# Altium footprint library Button_Switch_SMD.PcbLib: 148 footprints (part 2 of 10)
Each footprint in its own frame and in the unit in brackets; x right, y up, seen from the top. Pads: shape width x height; smd on the part's side, far side on the other; paste and mask are expansions set on the pad; w line width, h text height; cw(c..) or ccw(c..) is an arc to the next point about the centre after c.
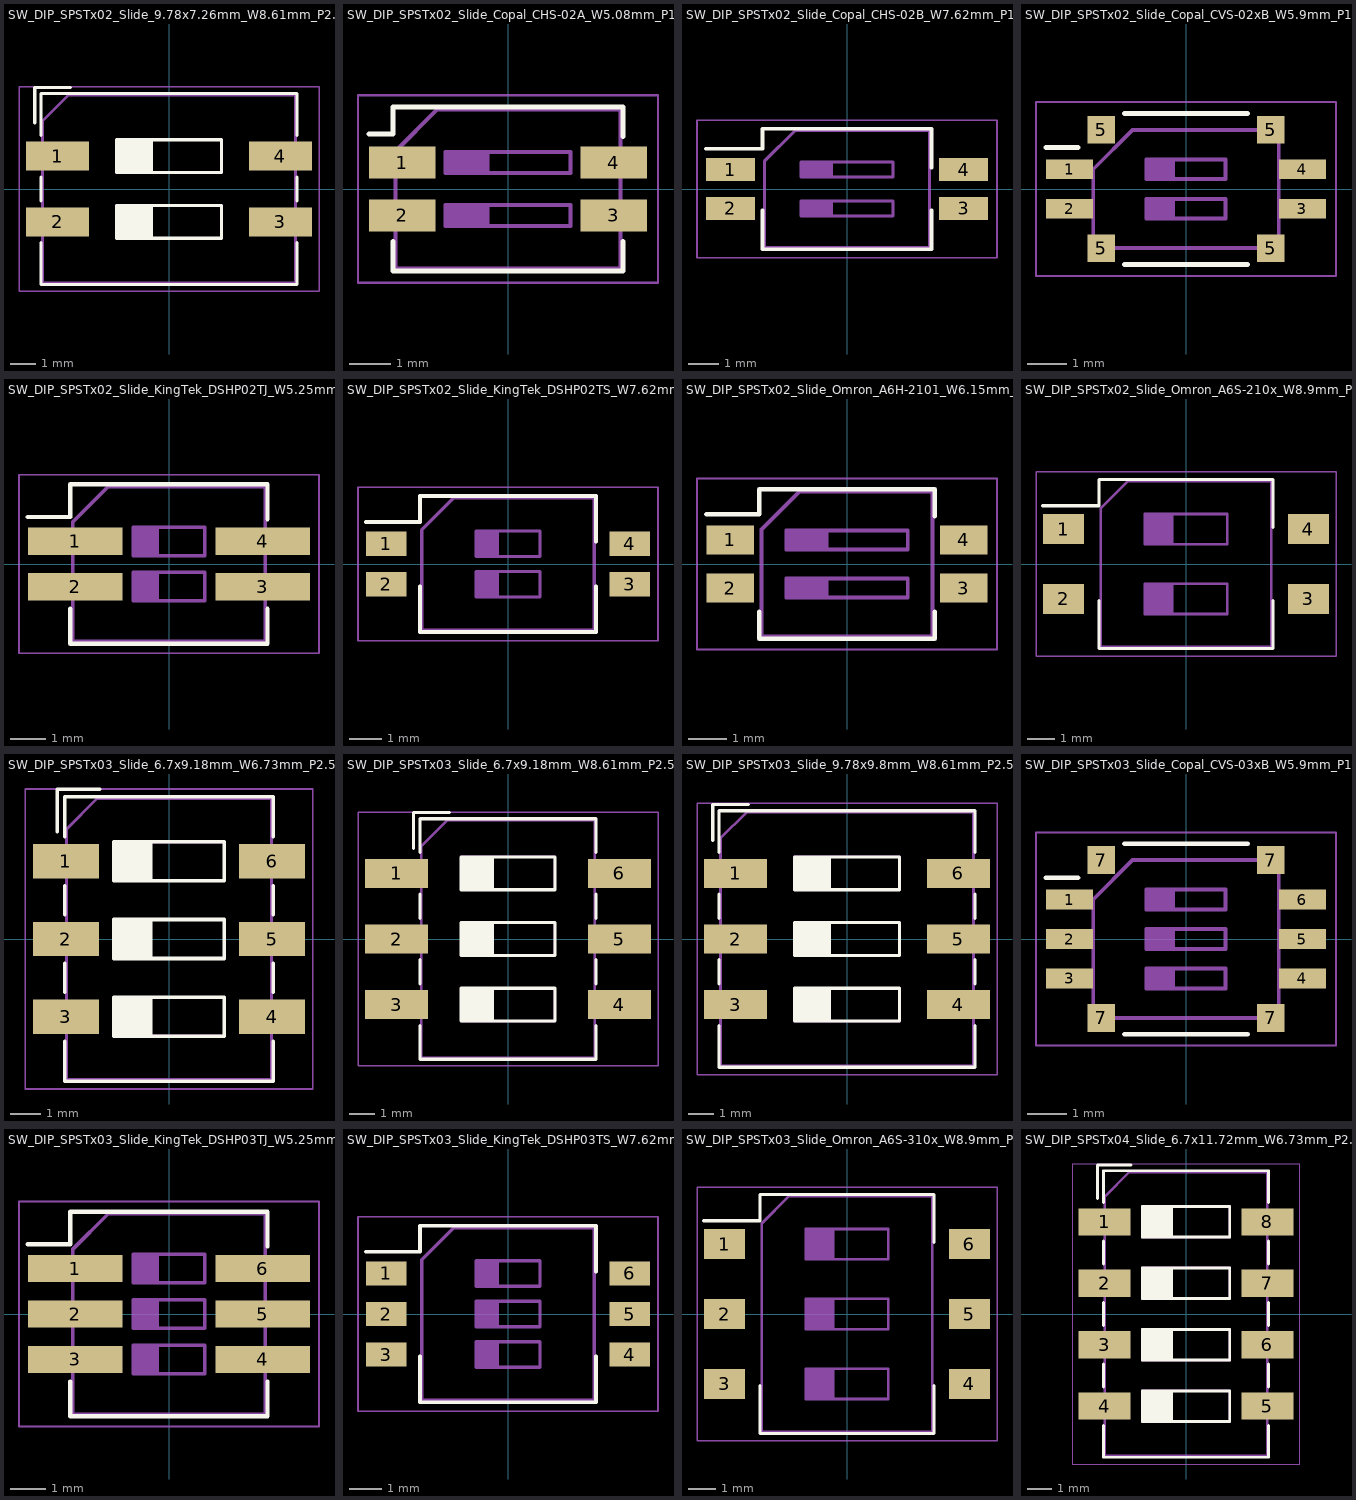
[diagram p1: the footprints below, top view; thin cyan lines are the x and y axes]

## SW_DIP_SPSTx02_Slide_9.78x7.26mm_W8.61mm_P2.54mm [mm]
pads (4):
  rect 2.44x1.12 smd: 1(-4.305,1.27) 2(-4.305,-1.27) 3(4.305,-1.27) 4(4.305,1.27)
F.SilkS:
  lines w0.12: -5.19,2.547 -5.19,3.93 -3.806,3.93 ; -4.95,-2.07 -4.95,-3.69 4.95,-3.69 4.95,-2.07 ; -4.95,-0.47 -4.95,0.47 ; -4.95,2.07 -4.95,3.69 4.95,3.69 4.95,2.07 ; -2.03,-1.835 -0.677,-1.835 ; -2.03,-1.715 -0.677,-1.715 ; -2.03,-1.595 -0.677,-1.595 ; -2.03,-1.475 -0.677,-1.475 ; -2.03,-1.355 -0.677,-1.355 ; -2.03,-1.235 -0.677,-1.235 ; -2.03,-1.115 -0.677,-1.115 ; -2.03,-0.995 -0.677,-0.995 ; -2.03,-0.875 -0.677,-0.875 ; -2.03,-0.755 -0.677,-0.755 ; -2.03,0.705 -0.677,0.705 ; -2.03,0.825 -0.677,0.825 ; -2.03,0.945 -0.677,0.945 ; -2.03,1.065 -0.677,1.065 ; -2.03,1.185 -0.677,1.185 ; -2.03,1.305 -0.677,1.305 ; -2.03,1.425 -0.677,1.425 ; -2.03,1.545 -0.677,1.545 ; -2.03,1.665 -0.677,1.665 ; -2.03,1.785 -0.677,1.785 ; -0.677,-1.905 -0.677,-0.635 ; -0.677,0.635 -0.677,1.905 ; 4.95,-0.47 4.95,0.47 ; -2.03,-1.905 -2.03,-0.635 2.03,-0.635 2.03,-1.905 -2.03,-1.905 ; -2.03,0.635 -2.03,1.905 2.03,1.905 2.03,0.635 -2.03,0.635
F.CrtYd:
  lines w0.05: -5.8,-3.95 5.8,-3.95 5.8,3.95 -5.8,3.95 -5.8,-3.95
F.Fab:
  lines w0.1: -2.03,-1.835 -0.677,-1.835 ; -2.03,-1.735 -0.677,-1.735 ; -2.03,-1.635 -0.677,-1.635 ; -2.03,-1.535 -0.677,-1.535 ; -2.03,-1.435 -0.677,-1.435 ; -2.03,-1.335 -0.677,-1.335 ; -2.03,-1.235 -0.677,-1.235 ; -2.03,-1.135 -0.677,-1.135 ; -2.03,-1.035 -0.677,-1.035 ; -2.03,-0.935 -0.677,-0.935 ; -2.03,-0.835 -0.677,-0.835 ; -2.03,-0.735 -0.677,-0.735 ; -2.03,0.705 -0.677,0.705 ; -2.03,0.805 -0.677,0.805 ; -2.03,0.905 -0.677,0.905 ; -2.03,1.005 -0.677,1.005 ; -2.03,1.105 -0.677,1.105 ; -2.03,1.205 -0.677,1.205 ; -2.03,1.305 -0.677,1.305 ; -2.03,1.405 -0.677,1.405 ; -2.03,1.505 -0.677,1.505 ; -2.03,1.605 -0.677,1.605 ; -2.03,1.705 -0.677,1.705 ; -2.03,1.805 -0.677,1.805 ; -0.677,-1.905 -0.677,-0.635 ; -0.677,0.635 -0.677,1.905 ; -4.89,-3.63 -4.89,2.63 -3.89,3.63 4.89,3.63 4.89,-3.63 -4.89,-3.63 ; -2.03,-1.905 2.03,-1.905 2.03,-0.635 -2.03,-0.635 -2.03,-1.905 ; -2.03,0.635 2.03,0.635 2.03,1.905 -2.03,1.905 -2.03,0.635
  text "on" at 0.643,2.381 h0.8
  text "'.Designator'" at 4.132,-3.237 h0.8

## SW_DIP_SPSTx02_Slide_Copal_CHS-02A_W5.08mm_P1.27mm_JPin [mm]
pads (4):
  rect 1.6x0.76 smd: 1(-2.54,0.635) 2(-2.54,-0.635) 3(2.54,-0.635) 4(2.54,0.635)
F.SilkS:
  lines w0.12: -3.34,1.315 -2.761,1.315 -2.761,1.965 2.76,1.965 2.76,1.255 ; -2.761,-1.255 -2.761,-1.965 2.76,-1.965 2.76,-1.255
F.CrtYd:
  lines w0.05: -3.6,-2.25 3.6,-2.25 3.6,2.25 -3.6,2.25 -3.6,-2.25
F.Fab:
  lines w0.1: -1.5,-0.785 -0.5,-0.785 ; -1.5,-0.685 -0.5,-0.685 ; -1.5,-0.585 -0.5,-0.585 ; -1.5,-0.485 -0.5,-0.485 ; -1.5,0.485 -0.5,0.485 ; -1.5,0.585 -0.5,0.585 ; -1.5,0.685 -0.5,0.685 ; -1.5,0.785 -0.5,0.785 ; -0.5,-0.885 -0.5,-0.385 ; -0.5,0.385 -0.5,0.885 ; -2.7,-1.905 2.7,-1.905 2.7,1.905 -1.7,1.905 -2.7,0.905 -2.7,-1.905 ; -1.5,-0.885 1.5,-0.885 1.5,-0.385 -1.5,-0.385 -1.5,-0.885 ; -1.5,0.385 1.5,0.385 1.5,0.885 -1.5,0.885 -1.5,0.385
  text "'.Designator'" at 2.772,-3.237 h0.8
  text "on" at 0.165,1.008 h0.8

## SW_DIP_SPSTx02_Slide_Copal_CHS-02B_W7.62mm_P1.27mm [mm]
pads (4):
  rect 1.6x0.76 smd: 1(-3.81,0.635) 2(-3.81,-0.635) 3(3.81,-0.635) 4(3.81,0.635)
F.SilkS:
  lines w0.12: -4.61,1.315 -2.76,1.315 -2.76,1.965 2.76,1.965 2.76,0.696 ; -2.76,-0.695 -2.76,-1.965 2.76,-1.965 2.76,-0.695
F.CrtYd:
  lines w0.05: -4.9,-2.25 -4.9,2.25 4.9,2.25 4.9,-2.25 -4.9,-2.25
F.Fab:
  lines w0.1: -1.5,-0.785 -0.5,-0.785 ; -1.5,-0.685 -0.5,-0.685 ; -1.5,-0.585 -0.5,-0.585 ; -1.5,-0.485 -0.5,-0.485 ; -1.5,0.485 -0.5,0.485 ; -1.5,0.585 -0.5,0.585 ; -1.5,0.685 -0.5,0.685 ; -1.5,0.785 -0.5,0.785 ; -0.5,-0.885 -0.5,-0.385 ; -0.5,0.385 -0.5,0.885 ; -2.7,-1.905 2.7,-1.905 2.7,1.905 -1.7,1.905 -2.7,0.905 -2.7,-1.905 ; -1.5,-0.885 1.5,-0.885 1.5,-0.385 -1.5,-0.385 -1.5,-0.885 ; -1.5,0.385 1.5,0.385 1.5,0.885 -1.5,0.885 -1.5,0.385
  text "'.Designator'" at 2.772,-3.237 h0.8
  text "on" at -0.47,1.008 h0.8

## SW_DIP_SPSTx02_Slide_Copal_CVS-02xB_W5.9mm_P1mm [mm]
pads (8):
  rect 1.2x0.5 smd: 1(-2.95,0.5) 2(-2.95,-0.5) 3(2.95,-0.5) 4(2.95,0.5)
  rect 0.7x0.7 smd: 5(-2.15,-1.5) 5(-2.15,1.5) 5(2.15,-1.5) 5(2.15,1.5)
F.SilkS:
  lines w0.12: -3.55,1.05 -2.739,1.05 ; -1.56,-1.91 1.561,-1.91 ; -1.56,1.91 1.561,1.91
F.CrtYd:
  lines w0.05: -3.8,-2.2 3.8,-2.2 3.8,2.2 -3.8,2.2 -3.8,-2.2
F.Fab:
  lines w0.1: -1,-0.65 -0.333,-0.65 ; -1,-0.55 -0.333,-0.55 ; -1,-0.45 -0.333,-0.45 ; -1,-0.35 -0.333,-0.35 ; -1,0.35 -0.333,0.35 ; -1,0.45 -0.333,0.45 ; -1,0.55 -0.333,0.55 ; -1,0.65 -0.333,0.65 ; -0.333,-0.75 -0.333,-0.25 ; -0.333,0.25 -0.333,0.75 ; -2.35,-1.5 2.35,-1.5 2.35,1.5 -1.35,1.5 -2.35,0.5 -2.35,-1.5 ; -1,-0.75 -1,-0.25 1,-0.25 1,-0.75 -1,-0.75 ; -1,0.25 -1,0.75 1,0.75 1,0.25 -1,0.25
  text "'.Designator'" at 2.347,-3.237 h0.8
  text "on" at -0.465,0.738 h0.8

## SW_DIP_SPSTx02_Slide_KingTek_DSHP02TJ_W5.25mm_P1.27mm_JPin [mm]
pads (4):
  rect 2.65x0.76 smd: 1(-2.625,0.635) 2(-2.625,-0.635) 3(2.625,-0.635) 4(2.625,0.635)
F.SilkS:
  lines w0.12: -3.951,1.315 -2.761,1.315 -2.761,2.23 2.76,2.23 2.76,1.255 ; -2.761,-1.255 -2.761,-2.23 2.76,-2.23 2.76,-1.255
F.CrtYd:
  lines w0.05: -4.2,-2.5 -4.2,2.5 4.2,2.5 4.2,-2.5 -4.2,-2.5
F.Fab:
  lines w0.1: -1,-0.935 -0.333,-0.935 ; -1,-0.835 -0.333,-0.835 ; -1,-0.735 -0.333,-0.735 ; -1,-0.635 -0.333,-0.635 ; -1,-0.535 -0.333,-0.535 ; -1,-0.435 -0.333,-0.435 ; -1,-0.335 -0.333,-0.335 ; -1,0.335 -0.333,0.335 ; -1,0.435 -0.333,0.435 ; -1,0.535 -0.333,0.535 ; -1,0.635 -0.333,0.635 ; -1,0.735 -0.333,0.735 ; -1,0.835 -0.333,0.835 ; -1,0.935 -0.333,0.935 ; -0.333,-1.035 -0.333,-0.235 ; -0.333,0.235 -0.333,1.035 ; -2.7,-2.17 -2.7,1.17 -1.7,2.17 2.7,2.17 2.7,-2.17 -2.7,-2.17 ; -1,-1.035 1,-1.035 1,-0.235 -1,-0.235 -1,-1.035 ; -1,0.235 -1,1.035 1,1.035 1,0.235 -1,0.235
  text "on" at -0.127,1.216 h0.8
  text "'.Designator'" at 2.522,-3.237 h0.8

## SW_DIP_SPSTx02_Slide_KingTek_DSHP02TS_W7.62mm_P1.27mm [mm]
pads (4):
  rect 1.27x0.76 smd: 1(-3.81,0.635) 2(-3.81,-0.635) 3(3.81,-0.635) 4(3.81,0.635)
F.SilkS:
  lines w0.12: -4.446,1.315 -2.76,1.315 -2.76,2.131 2.76,2.131 2.76,0.696 ; -2.76,-0.695 -2.76,-2.13 2.76,-2.13 2.76,-0.695
F.CrtYd:
  lines w0.05: -4.7,-2.4 -4.7,2.4 4.7,2.4 4.7,-2.4 -4.7,-2.4
F.Fab:
  lines w0.1: -1,-0.935 -0.333,-0.935 ; -1,-0.835 -0.333,-0.835 ; -1,-0.735 -0.333,-0.735 ; -1,-0.635 -0.333,-0.635 ; -1,-0.535 -0.333,-0.535 ; -1,-0.435 -0.333,-0.435 ; -1,-0.335 -0.333,-0.335 ; -1,0.335 -0.333,0.335 ; -1,0.435 -0.333,0.435 ; -1,0.535 -0.333,0.535 ; -1,0.635 -0.333,0.635 ; -1,0.735 -0.333,0.735 ; -1,0.835 -0.333,0.835 ; -1,0.935 -0.333,0.935 ; -0.333,-1.035 -0.333,-0.235 ; -0.333,0.235 -0.333,1.035 ; -2.7,-2.07 -2.7,1.07 -1.7,2.07 2.7,2.07 2.7,-2.07 -2.7,-2.07 ; -1,-1.035 1,-1.035 1,-0.235 -1,-0.235 -1,-1.035 ; -1,0.235 1,0.235 1,1.035 -1,1.035 -1,0.235
  text "on" at -0.72,1.166 h0.8
  text "'.Designator'" at 2.522,-3.237 h0.8

## SW_DIP_SPSTx02_Slide_Omron_A6H-2101_W6.15mm_P1.27mm [mm]
pads (4):
  rect 1.25x0.76 smd: 1(-3.075,0.635) 2(-3.075,-0.635) 3(3.075,-0.635) 4(3.075,0.635)
F.SilkS:
  lines w0.12: -3.7,1.315 -2.309,1.315 -2.309,1.965 2.31,1.965 2.31,1.255 ; -2.309,-1.255 -2.309,-1.965 2.31,-1.965 2.31,-1.255
F.CrtYd:
  lines w0.05: -3.95,-2.25 -3.95,2.25 3.95,2.25 3.95,-2.25 -3.95,-2.25
F.Fab:
  lines w0.1: -1.6,-0.785 -0.533,-0.785 ; -1.6,-0.685 -0.533,-0.685 ; -1.6,-0.585 -0.533,-0.585 ; -1.6,-0.485 -0.533,-0.485 ; -1.6,0.485 -0.533,0.485 ; -1.6,0.585 -0.533,0.585 ; -1.6,0.685 -0.533,0.685 ; -1.6,0.785 -0.533,0.785 ; -0.533,-0.885 -0.533,-0.385 ; -0.533,0.385 -0.533,0.885 ; -2.25,-1.905 -2.25,0.905 -1.25,1.905 2.25,1.905 2.25,-1.905 -2.25,-1.905 ; -1.6,-0.885 -1.6,-0.385 1.6,-0.385 1.6,-0.885 -1.6,-0.885 ; -1.6,0.385 1.6,0.385 1.6,0.885 -1.6,0.885 -1.6,0.385
  text "on" at 0.009,1.175 h0.46
  text "'.Designator'" at 2.307,-1.841 h0.46

## SW_DIP_SPSTx02_Slide_Omron_A6S-210x_W8.9mm_P2.54mm [mm]
pads (4):
  rect 1.5x1.1 smd: 1(-4.45,1.27) 2(-4.45,-1.27) 3(4.45,-1.27) 4(4.45,1.27)
F.SilkS:
  lines w0.12: -5.2,2.121 -3.16,2.121 -3.16,3.07 3.16,3.07 3.16,1.331 ; -3.16,-1.331 -3.16,-3.071 3.16,-3.071 3.16,-1.331
F.CrtYd:
  lines w0.05: -5.45,-3.35 -5.45,3.35 5.45,3.35 5.45,-3.35 -5.45,-3.35
F.Fab:
  lines w0.1: -1.5,-1.72 -0.5,-1.72 ; -1.5,-1.62 -0.5,-1.62 ; -1.5,-1.52 -0.5,-1.52 ; -1.5,-1.42 -0.5,-1.42 ; -1.5,-1.32 -0.5,-1.32 ; -1.5,-1.22 -0.5,-1.22 ; -1.5,-1.12 -0.5,-1.12 ; -1.5,-1.02 -0.5,-1.02 ; -1.5,-0.92 -0.5,-0.92 ; -1.5,-0.82 -0.5,-0.82 ; -1.5,0.82 -0.5,0.82 ; -1.5,0.92 -0.5,0.92 ; -1.5,1.02 -0.5,1.02 ; -1.5,1.12 -0.5,1.12 ; -1.5,1.22 -0.5,1.22 ; -1.5,1.32 -0.5,1.32 ; -1.5,1.42 -0.5,1.42 ; -1.5,1.52 -0.5,1.52 ; -1.5,1.62 -0.5,1.62 ; -1.5,1.72 -0.5,1.72 ; -0.5,-1.82 -0.5,-0.72 ; -0.5,1.82 -0.5,0.72 -1.5,0.72 ; -1.5,0.72 1.5,0.72 1.5,1.82 -1.5,1.82 -1.5,0.72 ; -3.1,-3.01 3.1,-3.01 3.1,3.01 -2.1,3.01 -3.1,2.01 -3.1,-3.01 ; -1.5,-1.82 1.5,-1.82 1.5,-0.72 -1.5,-0.72 -1.5,-1.82
  text "on" at -0.59,2.028 h0.8
  text "'.Designator'" at 2.972,-3.237 h0.8

## SW_DIP_SPSTx03_Slide_6.7x9.18mm_W6.73mm_P2.54mm_LowProfile_JPin [mm]
pads (6):
  rect 2.16x1.12 smd: 1(-3.365,2.54) 2(-3.365,0) 3(-3.365,-2.54) 4(3.365,-2.54) 5(3.365,0) 6(3.365,2.54)
F.SilkS:
  lines w0.12: -3.65,3.507 -3.65,4.89 -2.267,4.89 ; -3.41,-3.34 -3.41,-4.65 3.41,-4.65 3.41,-3.34 ; -3.41,-1.74 -3.41,-0.8 ; -3.41,0.8 -3.41,1.74 ; -3.41,3.34 -3.41,4.65 3.41,4.65 3.41,3.34 ; -1.81,-3.105 -0.603,-3.105 ; -1.81,-2.985 -0.603,-2.985 ; -1.81,-2.865 -0.603,-2.865 ; -1.81,-2.745 -0.603,-2.745 ; -1.81,-2.625 -0.603,-2.625 ; -1.81,-2.505 -0.603,-2.505 ; -1.81,-2.385 -0.603,-2.385 ; -1.81,-2.265 -0.603,-2.265 ; -1.81,-2.145 -0.603,-2.145 ; -1.81,-2.025 -0.603,-2.025 ; -1.81,-0.565 -0.603,-0.565 ; -1.81,-0.445 -0.603,-0.445 ; -1.81,-0.325 -0.603,-0.325 ; -1.81,-0.205 -0.603,-0.205 ; -1.81,-0.085 -0.603,-0.085 ; -1.81,0.035 -0.603,0.035 ; -1.81,0.155 -0.603,0.155 ; -1.81,0.275 -0.603,0.275 ; -1.81,0.395 -0.603,0.395 ; -1.81,0.515 -0.603,0.515 ; -1.81,1.975 -0.603,1.975 ; -1.81,2.095 -0.603,2.095 ; -1.81,2.215 -0.603,2.215 ; -1.81,2.335 -0.603,2.335 ; -1.81,2.455 -0.603,2.455 ; -1.81,2.575 -0.603,2.575 ; -1.81,2.695 -0.603,2.695 ; -1.81,2.815 -0.603,2.815 ; -1.81,2.935 -0.603,2.935 ; -1.81,3.055 -0.603,3.055 ; -0.603,-3.175 -0.603,-1.905 ; -0.603,-0.635 -0.603,0.635 ; -0.603,1.905 -0.603,3.175 ; 3.41,-1.74 3.41,-0.8 ; 3.41,0.8 3.41,1.74 ; -1.81,-3.175 1.81,-3.175 1.81,-1.905 -1.81,-1.905 -1.81,-3.175 ; -1.81,-0.635 -1.81,0.635 1.81,0.635 1.81,-0.635 -1.81,-0.635 ; -1.81,1.905 -1.81,3.175 1.81,3.175 1.81,1.905 -1.81,1.905
F.CrtYd:
  lines w0.05: -4.7,-4.9 4.7,-4.9 4.7,4.9 -4.7,4.9 -4.7,-4.9
F.Fab:
  lines w0.1: -1.81,-3.105 -0.603,-3.105 ; -1.81,-3.005 -0.603,-3.005 ; -1.81,-2.905 -0.603,-2.905 ; -1.81,-2.805 -0.603,-2.805 ; -1.81,-2.705 -0.603,-2.705 ; -1.81,-2.605 -0.603,-2.605 ; -1.81,-2.505 -0.603,-2.505 ; -1.81,-2.405 -0.603,-2.405 ; -1.81,-2.305 -0.603,-2.305 ; -1.81,-2.205 -0.603,-2.205 ; -1.81,-2.105 -0.603,-2.105 ; -1.81,-2.005 -0.603,-2.005 ; -1.81,-0.565 -0.603,-0.565 ; -1.81,-0.465 -0.603,-0.465 ; -1.81,-0.365 -0.603,-0.365 ; -1.81,-0.265 -0.603,-0.265 ; -1.81,-0.165 -0.603,-0.165 ; -1.81,-0.065 -0.603,-0.065 ; -1.81,0.035 -0.603,0.035 ; -1.81,0.135 -0.603,0.135 ; -1.81,0.235 -0.603,0.235 ; -1.81,0.335 -0.603,0.335 ; -1.81,0.435 -0.603,0.435 ; -1.81,0.535 -0.603,0.535 ; -1.81,1.975 -0.603,1.975 ; -1.81,2.075 -0.603,2.075 ; -1.81,2.175 -0.603,2.175 ; -1.81,2.275 -0.603,2.275 ; -1.81,2.375 -0.603,2.375 ; -1.81,2.475 -0.603,2.475 ; -1.81,2.575 -0.603,2.575 ; -1.81,2.675 -0.603,2.675 ; -1.81,2.775 -0.603,2.775 ; -1.81,2.875 -0.603,2.875 ; -1.81,2.975 -0.603,2.975 ; -1.81,3.075 -0.603,3.075 ; -0.603,-3.175 -0.603,-1.905 ; -0.603,-0.635 -0.603,0.635 ; -0.603,1.905 -0.603,3.175 ; -3.35,-4.59 -3.35,3.59 -2.35,4.59 3.35,4.59 3.35,-4.59 -3.35,-4.59 ; -1.81,-3.175 1.81,-3.175 1.81,-1.905 -1.81,-1.905 -1.81,-3.175 ; -1.81,-0.635 -1.81,0.635 1.81,0.635 1.81,-0.635 -1.81,-0.635 ; -1.81,1.905 -1.81,3.175 1.81,3.175 1.81,1.905 -1.81,1.905
  text "on" at 0.233,3.496 h0.8
  text "'.Designator'" at 3.252,-3.237 h0.8

## SW_DIP_SPSTx03_Slide_6.7x9.18mm_W8.61mm_P2.54mm_LowProfile [mm]
pads (6):
  rect 2.44x1.12 smd: 1(-4.305,2.54) 2(-4.305,0) 3(-4.305,-2.54) 4(4.305,-2.54) 5(4.305,0) 6(4.305,2.54)
F.SilkS:
  lines w0.12: -3.65,3.507 -3.65,4.89 -2.267,4.89 ; -3.41,-3.34 -3.41,-4.65 3.41,-4.65 3.41,-3.34 ; -3.41,-1.74 -3.41,-0.8 ; -3.41,0.8 -3.41,1.74 ; -3.41,3.34 -3.41,4.65 3.41,4.65 3.41,3.34 ; -1.81,-3.105 -0.603,-3.105 ; -1.81,-2.985 -0.603,-2.985 ; -1.81,-2.865 -0.603,-2.865 ; -1.81,-2.745 -0.603,-2.745 ; -1.81,-2.625 -0.603,-2.625 ; -1.81,-2.505 -0.603,-2.505 ; -1.81,-2.385 -0.603,-2.385 ; -1.81,-2.265 -0.603,-2.265 ; -1.81,-2.145 -0.603,-2.145 ; -1.81,-2.025 -0.603,-2.025 ; -1.81,-0.565 -0.603,-0.565 ; -1.81,-0.445 -0.603,-0.445 ; -1.81,-0.325 -0.603,-0.325 ; -1.81,-0.205 -0.603,-0.205 ; -1.81,-0.085 -0.603,-0.085 ; -1.81,0.035 -0.603,0.035 ; -1.81,0.155 -0.603,0.155 ; -1.81,0.275 -0.603,0.275 ; -1.81,0.395 -0.603,0.395 ; -1.81,0.515 -0.603,0.515 ; -1.81,1.975 -0.603,1.975 ; -1.81,2.095 -0.603,2.095 ; -1.81,2.215 -0.603,2.215 ; -1.81,2.335 -0.603,2.335 ; -1.81,2.455 -0.603,2.455 ; -1.81,2.575 -0.603,2.575 ; -1.81,2.695 -0.603,2.695 ; -1.81,2.815 -0.603,2.815 ; -1.81,2.935 -0.603,2.935 ; -1.81,3.055 -0.603,3.055 ; -0.603,-3.175 -0.603,-1.905 ; -0.603,-0.635 -0.603,0.635 ; -0.603,1.905 -0.603,3.175 ; 3.41,-1.74 3.41,-0.8 ; 3.41,0.8 3.41,1.74 ; -1.81,-3.175 -1.81,-1.905 1.81,-1.905 1.81,-3.175 -1.81,-3.175 ; -1.81,-0.635 -1.81,0.635 1.81,0.635 1.81,-0.635 -1.81,-0.635 ; -1.81,1.905 1.81,1.905 1.81,3.175 -1.81,3.175 -1.81,1.905
F.CrtYd:
  lines w0.05: -5.8,-4.9 5.8,-4.9 5.8,4.9 -5.8,4.9 -5.8,-4.9
F.Fab:
  lines w0.1: -1.81,-3.105 -0.603,-3.105 ; -1.81,-3.005 -0.603,-3.005 ; -1.81,-2.905 -0.603,-2.905 ; -1.81,-2.805 -0.603,-2.805 ; -1.81,-2.705 -0.603,-2.705 ; -1.81,-2.605 -0.603,-2.605 ; -1.81,-2.505 -0.603,-2.505 ; -1.81,-2.405 -0.603,-2.405 ; -1.81,-2.305 -0.603,-2.305 ; -1.81,-2.205 -0.603,-2.205 ; -1.81,-2.105 -0.603,-2.105 ; -1.81,-2.005 -0.603,-2.005 ; -1.81,-0.565 -0.603,-0.565 ; -1.81,-0.465 -0.603,-0.465 ; -1.81,-0.365 -0.603,-0.365 ; -1.81,-0.265 -0.603,-0.265 ; -1.81,-0.165 -0.603,-0.165 ; -1.81,-0.065 -0.603,-0.065 ; -1.81,0.035 -0.603,0.035 ; -1.81,0.135 -0.603,0.135 ; -1.81,0.235 -0.603,0.235 ; -1.81,0.335 -0.603,0.335 ; -1.81,0.435 -0.603,0.435 ; -1.81,0.535 -0.603,0.535 ; -1.81,1.975 -0.603,1.975 ; -1.81,2.075 -0.603,2.075 ; -1.81,2.175 -0.603,2.175 ; -1.81,2.275 -0.603,2.275 ; -1.81,2.375 -0.603,2.375 ; -1.81,2.475 -0.603,2.475 ; -1.81,2.575 -0.603,2.575 ; -1.81,2.675 -0.603,2.675 ; -1.81,2.775 -0.603,2.775 ; -1.81,2.875 -0.603,2.875 ; -1.81,2.975 -0.603,2.975 ; -1.81,3.075 -0.603,3.075 ; -0.603,-3.175 -0.603,-1.905 ; -0.603,-0.635 -0.603,0.635 ; -0.603,1.905 -0.603,3.175 ; -3.35,-4.59 -3.35,3.59 -2.35,4.59 3.35,4.59 3.35,-4.59 -3.35,-4.59 ; -1.81,-3.175 -1.81,-1.905 1.81,-1.905 1.81,-3.175 -1.81,-3.175 ; -1.81,-0.635 1.81,-0.635 1.81,0.635 -1.81,0.635 -1.81,-0.635 ; -1.81,1.905 1.81,1.905 1.81,3.175 -1.81,3.175 -1.81,1.905
  text "on" at -0.237,3.496 h0.8
  text "'.Designator'" at 3.252,-3.237 h0.8

## SW_DIP_SPSTx03_Slide_9.78x9.8mm_W8.61mm_P2.54mm [mm]
pads (6):
  rect 2.44x1.12 smd: 1(-4.305,2.54) 2(-4.305,0) 3(-4.305,-2.54) 4(4.305,-2.54) 5(4.305,0) 6(4.305,2.54)
F.SilkS:
  lines w0.12: -5.19,3.817 -5.19,5.2 -3.806,5.2 ; -4.95,-3.34 -4.95,-4.96 4.95,-4.96 4.95,-3.34 ; -4.95,-1.74 -4.95,-0.8 ; -4.95,0.8 -4.95,1.74 ; -4.95,3.34 -4.95,4.96 4.95,4.96 4.95,3.34 ; -2.03,-3.105 -0.677,-3.105 ; -2.03,-2.985 -0.677,-2.985 ; -2.03,-2.865 -0.677,-2.865 ; -2.03,-2.745 -0.677,-2.745 ; -2.03,-2.625 -0.677,-2.625 ; -2.03,-2.505 -0.677,-2.505 ; -2.03,-2.385 -0.677,-2.385 ; -2.03,-2.265 -0.677,-2.265 ; -2.03,-2.145 -0.677,-2.145 ; -2.03,-2.025 -0.677,-2.025 ; -2.03,-0.565 -0.677,-0.565 ; -2.03,-0.445 -0.677,-0.445 ; -2.03,-0.325 -0.677,-0.325 ; -2.03,-0.205 -0.677,-0.205 ; -2.03,-0.085 -0.677,-0.085 ; -2.03,0.035 -0.677,0.035 ; -2.03,0.155 -0.677,0.155 ; -2.03,0.275 -0.677,0.275 ; -2.03,0.395 -0.677,0.395 ; -2.03,0.515 -0.677,0.515 ; -2.03,1.975 -0.677,1.975 ; -2.03,2.095 -0.677,2.095 ; -2.03,2.215 -0.677,2.215 ; -2.03,2.335 -0.677,2.335 ; -2.03,2.455 -0.677,2.455 ; -2.03,2.575 -0.677,2.575 ; -2.03,2.695 -0.677,2.695 ; -2.03,2.815 -0.677,2.815 ; -2.03,2.935 -0.677,2.935 ; -2.03,3.055 -0.677,3.055 ; -0.677,-3.175 -0.677,-1.905 ; -0.677,-0.635 -0.677,0.635 ; -0.677,1.905 -0.677,3.175 ; 4.95,-1.74 4.95,-0.8 ; 4.95,0.8 4.95,1.74 ; -2.03,-3.175 2.03,-3.175 2.03,-1.905 -2.03,-1.905 -2.03,-3.175 ; -2.03,-0.635 2.03,-0.635 2.03,0.635 -2.03,0.635 -2.03,-0.635 ; -2.03,1.905 2.03,1.905 2.03,3.175 -2.03,3.175 -2.03,1.905
F.CrtYd:
  lines w0.05: -5.8,-5.25 -5.8,5.25 5.8,5.25 5.8,-5.25 -5.8,-5.25
F.Fab:
  lines w0.1: -2.03,-3.105 -0.677,-3.105 ; -2.03,-3.005 -0.677,-3.005 ; -2.03,-2.905 -0.677,-2.905 ; -2.03,-2.805 -0.677,-2.805 ; -2.03,-2.705 -0.677,-2.705 ; -2.03,-2.605 -0.677,-2.605 ; -2.03,-2.505 -0.677,-2.505 ; -2.03,-2.405 -0.677,-2.405 ; -2.03,-2.305 -0.677,-2.305 ; -2.03,-2.205 -0.677,-2.205 ; -2.03,-2.105 -0.677,-2.105 ; -2.03,-2.005 -0.677,-2.005 ; -2.03,-0.565 -0.677,-0.565 ; -2.03,-0.465 -0.677,-0.465 ; -2.03,-0.365 -0.677,-0.365 ; -2.03,-0.265 -0.677,-0.265 ; -2.03,-0.165 -0.677,-0.165 ; -2.03,-0.065 -0.677,-0.065 ; -2.03,0.035 -0.677,0.035 ; -2.03,0.135 -0.677,0.135 ; -2.03,0.235 -0.677,0.235 ; -2.03,0.335 -0.677,0.335 ; -2.03,0.435 -0.677,0.435 ; -2.03,0.535 -0.677,0.535 ; -2.03,1.975 -0.677,1.975 ; -2.03,2.075 -0.677,2.075 ; -2.03,2.175 -0.677,2.175 ; -2.03,2.275 -0.677,2.275 ; -2.03,2.375 -0.677,2.375 ; -2.03,2.475 -0.677,2.475 ; -2.03,2.575 -0.677,2.575 ; -2.03,2.675 -0.677,2.675 ; -2.03,2.775 -0.677,2.775 ; -2.03,2.875 -0.677,2.875 ; -2.03,2.975 -0.677,2.975 ; -2.03,3.075 -0.677,3.075 ; -0.677,-3.175 -0.677,-1.905 ; -0.677,-0.635 -0.677,0.635 ; -0.677,1.905 -0.677,3.175 ; -4.89,-4.9 4.89,-4.9 4.89,4.9 -3.89,4.9 -4.89,3.9 -4.89,-4.9 ; -2.03,-3.175 2.03,-3.175 2.03,-1.905 -2.03,-1.905 -2.03,-3.175 ; -2.03,-0.635 2.03,-0.635 2.03,0.635 -2.03,0.635 -2.03,-0.635 ; -2.03,1.905 -2.03,3.175 2.03,3.175 2.03,1.905 -2.03,1.905
  text "'.Designator'" at 4.132,-3.237 h0.8
  text "on" at 0.643,3.651 h0.8

## SW_DIP_SPSTx03_Slide_Copal_CVS-03xB_W5.9mm_P1mm [mm]
pads (10):
  rect 1.2x0.5 smd: 1(-2.95,1) 2(-2.95,0) 3(-2.95,-1) 4(2.95,-1) 5(2.95,0) 6(2.95,1)
  rect 0.7x0.7 smd: 7(-2.15,-2) 7(-2.15,2) 7(2.15,-2) 7(2.15,2)
F.SilkS:
  lines w0.12: -3.55,1.55 -2.739,1.55 ; -1.56,-2.41 1.561,-2.41 ; -1.56,2.41 1.561,2.41
F.CrtYd:
  lines w0.05: -3.8,-2.7 -3.8,2.7 3.8,2.7 3.8,-2.7 -3.8,-2.7
F.Fab:
  lines w0.1: -1,-1.15 -0.333,-1.15 ; -1,-1.05 -0.333,-1.05 ; -1,-0.95 -0.333,-0.95 ; -1,-0.85 -0.333,-0.85 ; -1,-0.15 -0.333,-0.15 ; -1,-0.05 -0.333,-0.05 ; -1,0.05 -0.333,0.05 ; -1,0.15 -0.333,0.15 ; -1,0.85 -0.333,0.85 ; -1,0.95 -0.333,0.95 ; -1,1.05 -0.333,1.05 ; -1,1.15 -0.333,1.15 ; -0.333,-1.25 -0.333,-0.75 ; -0.333,-0.25 -0.333,0.25 ; -0.333,0.75 -0.333,1.25 ; -2.35,-2 2.35,-2 2.35,2 -1.35,2 -2.35,1 -2.35,-2 ; -1,-1.25 1,-1.25 1,-0.75 -1,-0.75 -1,-1.25 ; -1,-0.25 1,-0.25 1,0.25 -1,0.25 -1,-0.25 ; -1,0.75 -1,1.25 1,1.25 1,0.75 -1,0.75
  text "on" at -0.465,1.238 h0.8
  text "'.Designator'" at 2.347,-3.237 h0.8

## SW_DIP_SPSTx03_Slide_KingTek_DSHP03TJ_W5.25mm_P1.27mm_JPin [mm]
pads (6):
  rect 2.65x0.76 smd: 1(-2.625,1.27) 2(-2.625,0) 3(-2.625,-1.27) 4(2.625,-1.27) 5(2.625,0) 6(2.625,1.27)
F.SilkS:
  lines w0.12: -3.951,1.95 -2.761,1.95 -2.761,2.865 2.76,2.865 2.76,1.89 ; -2.761,-1.89 -2.761,-2.866 2.76,-2.866 2.76,-1.89
F.CrtYd:
  lines w0.05: -4.2,-3.15 4.2,-3.15 4.2,3.15 -4.2,3.15 -4.2,-3.15
F.Fab:
  lines w0.1: -1,-1.57 -0.333,-1.57 ; -1,-1.47 -0.333,-1.47 ; -1,-1.37 -0.333,-1.37 ; -1,-1.27 -0.333,-1.27 ; -1,-1.17 -0.333,-1.17 ; -1,-1.07 -0.333,-1.07 ; -1,-0.97 -0.333,-0.97 ; -1,-0.3 -0.333,-0.3 ; -1,-0.2 -0.333,-0.2 ; -1,-0.1 -0.333,-0.1 ; -1,0 -0.333,0 ; -1,0.1 -0.333,0.1 ; -1,0.2 -0.333,0.2 ; -1,0.3 -0.333,0.3 ; -1,0.97 -0.333,0.97 ; -1,1.07 -0.333,1.07 ; -1,1.17 -0.333,1.17 ; -1,1.27 -0.333,1.27 ; -1,1.37 -0.333,1.37 ; -1,1.47 -0.333,1.47 ; -1,1.57 -0.333,1.57 ; -0.333,-1.67 -0.333,-0.87 ; -0.333,-0.4 -0.333,0.4 ; -0.333,0.87 -0.333,1.67 ; -2.7,-2.805 -2.7,1.805 -1.7,2.805 2.7,2.805 2.7,-2.805 -2.7,-2.805 ; -1,-1.67 -1,-0.87 1,-0.87 1,-1.67 -1,-1.67 ; -1,-0.4 -1,0.4 1,0.4 1,-0.4 -1,-0.4 ; -1,0.87 1,0.87 1,1.67 -1,1.67 -1,0.87
  text "on" at -0.127,1.851 h0.8
  text "'.Designator'" at 2.522,-3.237 h0.8

## SW_DIP_SPSTx03_Slide_KingTek_DSHP03TS_W7.62mm_P1.27mm [mm]
pads (6):
  rect 1.27x0.76 smd: 1(-3.81,1.27) 2(-3.81,0) 3(-3.81,-1.27) 4(3.81,-1.27) 5(3.81,0) 6(3.81,1.27)
F.SilkS:
  lines w0.12: -4.446,1.95 -2.76,1.95 -2.76,2.766 2.76,2.766 2.76,1.331 ; -2.76,-1.33 -2.76,-2.765 2.76,-2.765 2.76,-1.33
F.CrtYd:
  lines w0.05: -4.7,-3.05 4.7,-3.05 4.7,3.05 -4.7,3.05 -4.7,-3.05
F.Fab:
  lines w0.1: -1,-1.57 -0.333,-1.57 ; -1,-1.47 -0.333,-1.47 ; -1,-1.37 -0.333,-1.37 ; -1,-1.27 -0.333,-1.27 ; -1,-1.17 -0.333,-1.17 ; -1,-1.07 -0.333,-1.07 ; -1,-0.97 -0.333,-0.97 ; -1,-0.3 -0.333,-0.3 ; -1,-0.2 -0.333,-0.2 ; -1,-0.1 -0.333,-0.1 ; -1,0 -0.333,0 ; -1,0.1 -0.333,0.1 ; -1,0.2 -0.333,0.2 ; -1,0.3 -0.333,0.3 ; -1,0.97 -0.333,0.97 ; -1,1.07 -0.333,1.07 ; -1,1.17 -0.333,1.17 ; -1,1.27 -0.333,1.27 ; -1,1.37 -0.333,1.37 ; -1,1.47 -0.333,1.47 ; -1,1.57 -0.333,1.57 ; -0.333,-1.67 -0.333,-0.87 ; -0.333,-0.4 -0.333,0.4 ; -0.333,0.87 -0.333,1.67 ; -2.7,-2.705 -2.7,1.705 -1.7,2.705 2.7,2.705 2.7,-2.705 -2.7,-2.705 ; -1,-1.67 -1,-0.87 1,-0.87 1,-1.67 -1,-1.67 ; -1,-0.4 -1,0.4 1,0.4 1,-0.4 -1,-0.4 ; -1,0.87 1,0.87 1,1.67 -1,1.67 -1,0.87
  text "'.Designator'" at 2.522,-3.237 h0.8
  text "on" at -0.72,1.801 h0.8

## SW_DIP_SPSTx03_Slide_Omron_A6S-310x_W8.9mm_P2.54mm [mm]
pads (6):
  rect 1.5x1.1 smd: 1(-4.45,2.54) 2(-4.45,0) 3(-4.45,-2.54) 4(4.45,-2.54) 5(4.45,0) 6(4.45,2.54)
F.SilkS:
  lines w0.12: -5.2,3.391 -3.16,3.391 -3.16,4.34 3.16,4.34 3.16,2.601 ; -3.16,-2.6 -3.16,-4.34 3.16,-4.34 3.16,-2.6
F.CrtYd:
  lines w0.05: -5.45,-4.6 5.45,-4.6 5.45,4.6 -5.45,4.6 -5.45,-4.6
F.Fab:
  lines w0.1: -1.5,-2.99 -0.5,-2.99 ; -1.5,-2.89 -0.5,-2.89 ; -1.5,-2.79 -0.5,-2.79 ; -1.5,-2.69 -0.5,-2.69 ; -1.5,-2.59 -0.5,-2.59 ; -1.5,-2.49 -0.5,-2.49 ; -1.5,-2.39 -0.5,-2.39 ; -1.5,-2.29 -0.5,-2.29 ; -1.5,-2.19 -0.5,-2.19 ; -1.5,-2.09 -0.5,-2.09 ; -1.5,-0.45 -0.5,-0.45 ; -1.5,-0.35 -0.5,-0.35 ; -1.5,-0.25 -0.5,-0.25 ; -1.5,-0.15 -0.5,-0.15 ; -1.5,-0.05 -0.5,-0.05 ; -1.5,0.05 -0.5,0.05 ; -1.5,0.15 -0.5,0.15 ; -1.5,0.25 -0.5,0.25 ; -1.5,0.35 -0.5,0.35 ; -1.5,0.45 -0.5,0.45 ; -1.5,2.09 -0.5,2.09 ; -1.5,2.19 -0.5,2.19 ; -1.5,2.29 -0.5,2.29 ; -1.5,2.39 -0.5,2.39 ; -1.5,2.49 -0.5,2.49 ; -1.5,2.59 -0.5,2.59 ; -1.5,2.69 -0.5,2.69 ; -1.5,2.79 -0.5,2.79 ; -1.5,2.89 -0.5,2.89 ; -1.5,2.99 -0.5,2.99 ; -0.5,-1.99 -0.5,-3.09 -1.5,-3.09 ; -0.5,-0.55 -0.5,0.55 ; -0.5,3.09 -0.5,1.99 -1.5,1.99 ; -1.5,-3.09 -1.5,-1.99 1.5,-1.99 1.5,-3.09 -1.5,-3.09 ; -1.5,1.99 1.5,1.99 1.5,3.09 -1.5,3.09 -1.5,1.99 ; -3.1,-4.28 -3.1,3.28 -2.1,4.28 3.1,4.28 3.1,-4.28 -3.1,-4.28 ; -1.5,-0.55 -1.5,0.55 1.5,0.55 1.5,-0.55 -1.5,-0.55
  text "'.Designator'" at 2.972,-3.237 h0.8
  text "on" at -0.59,3.298 h0.8

## SW_DIP_SPSTx04_Slide_6.7x11.72mm_W6.73mm_P2.54mm_LowProfile_JPin [mm]
pads (8):
  rect 2.16x1.12 smd: 1(-3.365,3.81) 2(-3.365,1.27) 3(-3.365,-1.27) 4(-3.365,-3.81) 5(3.365,-3.81) 6(3.365,-1.27) 7(3.365,1.27) 8(3.365,3.81)
F.SilkS:
  lines w0.12: -3.65,4.777 -3.65,6.16 -2.267,6.16 ; -3.41,-4.61 -3.41,-5.92 3.41,-5.92 3.41,-4.61 ; -3.41,-3.01 -3.41,-2.07 ; -3.41,-0.47 -3.41,0.47 ; -3.41,2.07 -3.41,3.01 ; -3.41,4.61 -3.41,5.92 3.41,5.92 3.41,4.61 ; -1.81,-4.375 -0.603,-4.375 ; -1.81,-4.255 -0.603,-4.255 ; -1.81,-4.135 -0.603,-4.135 ; -1.81,-4.015 -0.603,-4.015 ; -1.81,-3.895 -0.603,-3.895 ; -1.81,-3.775 -0.603,-3.775 ; -1.81,-3.655 -0.603,-3.655 ; -1.81,-3.535 -0.603,-3.535 ; -1.81,-3.415 -0.603,-3.415 ; -1.81,-3.295 -0.603,-3.295 ; -1.81,-1.835 -0.603,-1.835 ; -1.81,-1.715 -0.603,-1.715 ; -1.81,-1.595 -0.603,-1.595 ; -1.81,-1.475 -0.603,-1.475 ; -1.81,-1.355 -0.603,-1.355 ; -1.81,-1.235 -0.603,-1.235 ; -1.81,-1.115 -0.603,-1.115 ; -1.81,-0.995 -0.603,-0.995 ; -1.81,-0.875 -0.603,-0.875 ; -1.81,-0.755 -0.603,-0.755 ; -1.81,0.705 -0.603,0.705 ; -1.81,0.825 -0.603,0.825 ; -1.81,0.945 -0.603,0.945 ; -1.81,1.065 -0.603,1.065 ; -1.81,1.185 -0.603,1.185 ; -1.81,1.305 -0.603,1.305 ; -1.81,1.425 -0.603,1.425 ; -1.81,1.545 -0.603,1.545 ; -1.81,1.665 -0.603,1.665 ; -1.81,1.785 -0.603,1.785 ; -1.81,3.245 -0.603,3.245 ; -1.81,3.365 -0.603,3.365 ; -1.81,3.485 -0.603,3.485 ; -1.81,3.605 -0.603,3.605 ; -1.81,3.725 -0.603,3.725 ; -1.81,3.845 -0.603,3.845 ; -1.81,3.965 -0.603,3.965 ; -1.81,4.085 -0.603,4.085 ; -1.81,4.205 -0.603,4.205 ; -1.81,4.325 -0.603,4.325 ; -0.603,-4.445 -0.603,-3.175 ; -0.603,-1.905 -0.603,-0.635 ; -0.603,0.635 -0.603,1.905 ; -0.603,3.175 -0.603,4.445 ; 3.41,-3.01 3.41,-2.07 ; 3.41,-0.47 3.41,0.47 ; 3.41,2.07 3.41,3.01 ; -1.81,-4.445 1.81,-4.445 1.81,-3.175 -1.81,-3.175 -1.81,-4.445 ; -1.81,-1.905 -1.81,-0.635 1.81,-0.635 1.81,-1.905 -1.81,-1.905 ; -1.81,0.635 -1.81,1.905 1.81,1.905 1.81,0.635 -1.81,0.635 ; -1.81,3.175 1.81,3.175 1.81,4.445 -1.81,4.445 -1.81,3.175
F.CrtYd:
  lines w0.05: -4.7,-6.2 -4.7,6.2 4.7,6.2 4.7,-6.2 -4.7,-6.2
F.Fab:
  lines w0.1: -1.81,-4.375 -0.603,-4.375 ; -1.81,-4.275 -0.603,-4.275 ; -1.81,-4.175 -0.603,-4.175 ; -1.81,-4.075 -0.603,-4.075 ; -1.81,-3.975 -0.603,-3.975 ; -1.81,-3.875 -0.603,-3.875 ; -1.81,-3.775 -0.603,-3.775 ; -1.81,-3.675 -0.603,-3.675 ; -1.81,-3.575 -0.603,-3.575 ; -1.81,-3.475 -0.603,-3.475 ; -1.81,-3.375 -0.603,-3.375 ; -1.81,-3.275 -0.603,-3.275 ; -1.81,-1.835 -0.603,-1.835 ; -1.81,-1.735 -0.603,-1.735 ; -1.81,-1.635 -0.603,-1.635 ; -1.81,-1.535 -0.603,-1.535 ; -1.81,-1.435 -0.603,-1.435 ; -1.81,-1.335 -0.603,-1.335 ; -1.81,-1.235 -0.603,-1.235 ; -1.81,-1.135 -0.603,-1.135 ; -1.81,-1.035 -0.603,-1.035 ; -1.81,-0.935 -0.603,-0.935 ; -1.81,-0.835 -0.603,-0.835 ; -1.81,-0.735 -0.603,-0.735 ; -1.81,0.705 -0.603,0.705 ; -1.81,0.805 -0.603,0.805 ; -1.81,0.905 -0.603,0.905 ; -1.81,1.005 -0.603,1.005 ; -1.81,1.105 -0.603,1.105 ; -1.81,1.205 -0.603,1.205 ; -1.81,1.305 -0.603,1.305 ; -1.81,1.405 -0.603,1.405 ; -1.81,1.505 -0.603,1.505 ; -1.81,1.605 -0.603,1.605 ; -1.81,1.705 -0.603,1.705 ; -1.81,1.805 -0.603,1.805 ; -1.81,3.245 -0.603,3.245 ; -1.81,3.345 -0.603,3.345 ; -1.81,3.445 -0.603,3.445 ; -1.81,3.545 -0.603,3.545 ; -1.81,3.645 -0.603,3.645 ; -1.81,3.745 -0.603,3.745 ; -1.81,3.845 -0.603,3.845 ; -1.81,3.945 -0.603,3.945 ; -1.81,4.045 -0.603,4.045 ; -1.81,4.145 -0.603,4.145 ; -1.81,4.245 -0.603,4.245 ; -1.81,4.345 -0.603,4.345 ; -0.603,-4.445 -0.603,-3.175 ; -0.603,-1.905 -0.603,-0.635 ; -0.603,0.635 -0.603,1.905 ; -0.603,3.175 -0.603,4.445 ; -3.35,-5.86 3.35,-5.86 3.35,5.86 -2.35,5.86 -3.35,4.86 -3.35,-5.86 ; -1.81,-4.445 1.81,-4.445 1.81,-3.175 -1.81,-3.175 -1.81,-4.445 ; -1.81,-1.905 -1.81,-0.635 1.81,-0.635 1.81,-1.905 -1.81,-1.905 ; -1.81,0.635 1.81,0.635 1.81,1.905 -1.81,1.905 -1.81,0.635 ; -1.81,3.175 1.81,3.175 1.81,4.445 -1.81,4.445 -1.81,3.175
  text "'.Designator'" at 3.252,-3.237 h0.8
  text "on" at 0.233,4.766 h0.8